# Altium footprint library PCF8574DGVR.PcbLib: 3 footprints
Each footprint in its own frame and in the unit in brackets; x right, y up, seen from the top. Pads: shape width x height; smd on the part's side, far side on the other; paste and mask are expansions set on the pad; w line width, h text height; cw(c..) or ccw(c..) is an arc to the next point about the centre after c.
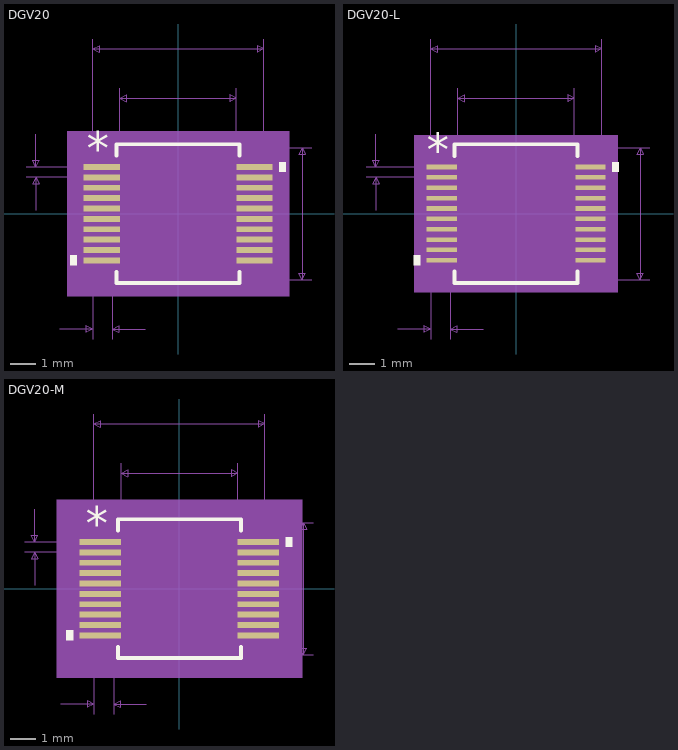
[diagram p0: the footprints below, top view; thin cyan lines are the x and y axes]

## DGV20 [mm]
pads (20):
  rect 1.404x0.229 smd paste+0 mask+0: 1(-2.95,1.8) 2(-2.95,1.4) 3(-2.95,1) 4(-2.95,0.6) 5(-2.95,0.2) 6(-2.95,-0.2) 7(-2.95,-0.6) 8(-2.95,-1) 9(-2.95,-1.4) 10(-2.95,-1.8) 11(2.95,-1.8) 12(2.95,-1.4) 13(2.95,-1) 14(2.95,-0.6) 15(2.95,-0.2) 16(2.95,0.2) 17(2.95,0.6) 18(2.95,1) 19(2.95,1.4) 20(2.95,1.8)
Top Overlay:
  region: -3.906,-1.609 -4.16,-1.609 -4.16,-1.99 -3.906,-1.99
  region: 3.906,1.99 4.16,1.99 4.16,1.609 3.906,1.609
  lines w0.152: -2.375,-2.247 -2.375,-2.68 2.375,-2.68 2.375,-2.247 ; -2.375,2.247 -2.375,2.68 2.375,2.68 2.375,2.247
  text "*" at -3.521,1.902 h1.27
Mechanical 5:
  region: 4.287,-3.188 -4.287,-3.188 -4.287,3.188 4.287,3.188
Mechanical 7:
  lines w0.025: -5.871,1.4 -2.95,1.4 ; -5.871,1.8 -2.95,1.8 ; -5.49,0.13 -5.49,1.4 ; -5.49,3.07 -5.49,1.8 ; -4.572,-4.458 -3.302,-4.458 ; -3.302,-4.839 -3.302,0 -3.302,6.744 ; -2.54,-4.839 -2.54,0 ; -2.248,0 -2.248,4.839 ; -1.27,-4.458 -2.54,-4.458 ; 0,-2.553 5.169,-2.553 ; 0,2.553 5.169,2.553 ; 2.248,0 2.248,4.839 ; 3.302,0 3.302,6.744 ; -5.49,1.4 -5.617,1.146 -5.363,1.146 -5.49,1.4 ; -5.49,1.8 -5.617,2.054 -5.363,2.054 -5.49,1.8 ; -3.302,-4.458 -3.556,-4.331 -3.556,-4.585 -3.302,-4.458 ; -3.302,6.363 3.302,6.363 ; -3.302,6.363 -3.048,6.49 -3.048,6.236 -3.302,6.363 ; -2.54,-4.458 -2.286,-4.331 -2.286,-4.585 -2.54,-4.458 ; -2.248,4.458 2.248,4.458 ; -2.248,4.458 -1.994,4.585 -1.994,4.331 -2.248,4.458 ; 2.248,4.458 1.994,4.585 1.994,4.331 2.248,4.458 ; 3.302,6.363 3.048,6.49 3.048,6.236 3.302,6.363 ; 4.788,-2.553 4.788,2.553 ; 4.788,-2.553 4.661,-2.299 4.915,-2.299 4.788,-2.553 ; 4.788,2.553 4.661,2.299 4.915,2.299 4.788,2.553
  text "Default Padstyle: r140_23" at -7.938,-7.633 h1.27
  text "Pin One Padstyle: r140_23" at -7.938,-9.157 h1.27
  text "Alt 1 Padstyle: b152_229h76" at -8.572,-13.729 h1.27
  text "Alt 2 Padstyle: b229_152h76" at -8.572,-15.253 h1.27
  text "0.177in/4.496mm" at -2.381,4.966 h0.64
  text "0.26in/6.604mm" at -2.222,6.871 h0.64
  text "0.201in/5.105mm" at 5.296,-0.318 h0.64
  text "0.016in/0.4mm" at -10.125,1.282 h0.64
  text "0.03in/0.762mm" at -5.143,-5.601 h0.64
Mechanical 13:
  lines w0: -0.305,2.553 ccw(c0,2.553) 0.305,2.553
  lines w0.025: -3.302,-1.914 -3.302,-1.686 -2.248,-1.686 -2.248,-1.914 -3.302,-1.914 ; -3.302,-1.514 -3.302,-1.286 -2.248,-1.286 -2.248,-1.514 -3.302,-1.514 ; -3.302,-1.114 -3.302,-0.886 -2.248,-0.886 -2.248,-1.114 -3.302,-1.114 ; -3.302,-0.714 -3.302,-0.486 -2.248,-0.486 -2.248,-0.714 -3.302,-0.714 ; -3.302,-0.314 -3.302,-0.086 -2.248,-0.086 -2.248,-0.314 -3.302,-0.314 ; -3.302,0.086 -3.302,0.314 -2.248,0.314 -2.248,0.086 -3.302,0.086 ; -3.302,0.486 -3.302,0.714 -2.248,0.714 -2.248,0.486 -3.302,0.486 ; -3.302,0.886 -3.302,1.114 -2.248,1.114 -2.248,0.886 -3.302,0.886 ; -3.302,1.286 -3.302,1.514 -2.248,1.514 -2.248,1.286 -3.302,1.286 ; -3.302,1.686 -3.302,1.914 -2.248,1.914 -2.248,1.686 -3.302,1.686 ; -2.248,-2.553 2.248,-2.553 2.248,2.553 -2.248,2.553 -2.248,-2.553 ; 2.248,-1.914 2.248,-1.686 3.302,-1.686 3.302,-1.914 2.248,-1.914 ; 2.248,-1.514 2.248,-1.286 3.302,-1.286 3.302,-1.514 2.248,-1.514 ; 2.248,-1.114 2.248,-0.886 3.302,-0.886 3.302,-1.114 2.248,-1.114 ; 2.248,-0.714 2.248,-0.486 3.302,-0.486 3.302,-0.714 2.248,-0.714 ; 2.248,-0.314 2.248,-0.086 3.302,-0.086 3.302,-0.314 2.248,-0.314 ; 2.248,0.086 2.248,0.314 3.302,0.314 3.302,0.086 2.248,0.086 ; 2.248,0.486 2.248,0.714 3.302,0.714 3.302,0.486 2.248,0.486 ; 2.248,0.886 2.248,1.114 3.302,1.114 3.302,0.886 2.248,0.886 ; 2.248,1.286 2.248,1.514 3.302,1.514 3.302,1.286 2.248,1.286 ; 2.248,1.686 2.248,1.914 3.302,1.914 3.302,1.686 2.248,1.686
  text "*" at -2.184,1.206 h1.27
Mechanical 15:
  region: -2.502,-2.168 -3.906,-2.168 -3.906,2.168 -2.502,2.168 -2.502,2.807 2.502,2.807 2.502,2.168 3.906,2.168 3.906,-2.168 2.502,-2.168 2.502,-2.807 -2.502,-2.807
  lines w0.152: -3.906,-2.168 -3.906,2.168 -2.502,2.168 -2.502,2.807 2.502,2.807 2.502,2.168 3.906,2.168 3.906,-2.168 2.502,-2.168 2.502,-2.807 -2.502,-2.807 -2.502,-2.168 -3.906,-2.168
3D body: height 0.25, standoff 0, extent 0,0 0.254,0.254

## DGV20-L [mm]
pads (20):
  rect 1.162x0.179 smd paste+0 mask+0: 1(-2.871,1.8) 2(-2.871,1.4) 3(-2.871,1) 4(-2.871,0.6) 5(-2.871,0.2) 6(-2.871,-0.2) 7(-2.871,-0.6) 8(-2.871,-1) 9(-2.871,-1.4) 10(-2.871,-1.8) 11(2.871,-1.8) 12(2.871,-1.4) 13(2.871,-1) 14(2.871,-0.6) 15(2.871,-0.2) 16(2.871,0.2) 17(2.871,0.6) 18(2.871,1) 19(2.871,1.4) 20(2.871,1.8)
Top Overlay:
  region: -3.706,-1.609 -3.96,-1.609 -3.96,-1.99 -3.706,-1.99
  region: 3.706,1.99 3.96,1.99 3.96,1.609 3.706,1.609
  lines w0.152: -2.375,-2.222 -2.375,-2.68 2.375,-2.68 2.375,-2.222 ; -2.375,2.222 -2.375,2.68 2.375,2.68 2.375,2.222
  text "*" at -3.443,1.852 h1.27
Mechanical 5:
  region: 3.935,-3.035 -3.935,-3.035 -3.935,3.035 3.935,3.035
Mechanical 7:
  lines w0.025: -5.792,1.4 -2.871,1.4 ; -5.792,1.8 -2.871,1.8 ; -5.411,0.13 -5.411,1.4 ; -5.411,3.07 -5.411,1.8 ; -4.572,-4.458 -3.302,-4.458 ; -3.302,-4.839 -3.302,0 -3.302,6.744 ; -2.54,-4.839 -2.54,0 ; -2.248,0 -2.248,4.839 ; -1.27,-4.458 -2.54,-4.458 ; 0,-2.553 5.169,-2.553 ; 0,2.553 5.169,2.553 ; 2.248,0 2.248,4.839 ; 3.302,0 3.302,6.744 ; -5.411,1.4 -5.538,1.146 -5.284,1.146 -5.411,1.4 ; -5.411,1.8 -5.538,2.054 -5.284,2.054 -5.411,1.8 ; -3.302,-4.458 -3.556,-4.331 -3.556,-4.585 -3.302,-4.458 ; -3.302,6.363 3.302,6.363 ; -3.302,6.363 -3.048,6.49 -3.048,6.236 -3.302,6.363 ; -2.54,-4.458 -2.286,-4.331 -2.286,-4.585 -2.54,-4.458 ; -2.248,4.458 2.248,4.458 ; -2.248,4.458 -1.994,4.585 -1.994,4.331 -2.248,4.458 ; 2.248,4.458 1.994,4.585 1.994,4.331 2.248,4.458 ; 3.302,6.363 3.048,6.49 3.048,6.236 3.302,6.363 ; 4.788,-2.553 4.788,2.553 ; 4.788,-2.553 4.661,-2.299 4.915,-2.299 4.788,-2.553 ; 4.788,2.553 4.661,2.299 4.915,2.299 4.788,2.553
  text "Default Padstyle: r116_18" at -7.938,-7.633 h1.27
  text "Pin One Padstyle: r116_18" at -7.938,-9.157 h1.27
  text "Alt 1 Padstyle: b152_229h76" at -8.572,-13.729 h1.27
  text "Alt 2 Padstyle: b229_152h76" at -8.572,-15.253 h1.27
  text "0.177in/4.496mm" at -2.381,4.966 h0.64
  text "0.26in/6.604mm" at -2.222,6.871 h0.64
  text "0.201in/5.105mm" at 5.296,-0.318 h0.64
  text "0.016in/0.4mm" at -10.047,1.282 h0.64
  text "0.03in/0.762mm" at -5.143,-5.601 h0.64
Mechanical 13:
  lines w0: -0.305,2.553 ccw(c0,2.553) 0.305,2.553
  lines w0.025: -3.302,-1.914 -3.302,-1.686 -2.248,-1.686 -2.248,-1.914 -3.302,-1.914 ; -3.302,-1.514 -3.302,-1.286 -2.248,-1.286 -2.248,-1.514 -3.302,-1.514 ; -3.302,-1.114 -3.302,-0.886 -2.248,-0.886 -2.248,-1.114 -3.302,-1.114 ; -3.302,-0.714 -3.302,-0.486 -2.248,-0.486 -2.248,-0.714 -3.302,-0.714 ; -3.302,-0.314 -3.302,-0.086 -2.248,-0.086 -2.248,-0.314 -3.302,-0.314 ; -3.302,0.086 -3.302,0.314 -2.248,0.314 -2.248,0.086 -3.302,0.086 ; -3.302,0.486 -3.302,0.714 -2.248,0.714 -2.248,0.486 -3.302,0.486 ; -3.302,0.886 -3.302,1.114 -2.248,1.114 -2.248,0.886 -3.302,0.886 ; -3.302,1.286 -3.302,1.514 -2.248,1.514 -2.248,1.286 -3.302,1.286 ; -3.302,1.686 -3.302,1.914 -2.248,1.914 -2.248,1.686 -3.302,1.686 ; -2.248,-2.553 2.248,-2.553 2.248,2.553 -2.248,2.553 -2.248,-2.553 ; 2.248,-1.914 2.248,-1.686 3.302,-1.686 3.302,-1.914 2.248,-1.914 ; 2.248,-1.514 2.248,-1.286 3.302,-1.286 3.302,-1.514 2.248,-1.514 ; 2.248,-1.114 2.248,-0.886 3.302,-0.886 3.302,-1.114 2.248,-1.114 ; 2.248,-0.714 2.248,-0.486 3.302,-0.486 3.302,-0.714 2.248,-0.714 ; 2.248,-0.314 2.248,-0.086 3.302,-0.086 3.302,-0.314 2.248,-0.314 ; 2.248,0.086 2.248,0.314 3.302,0.314 3.302,0.086 2.248,0.086 ; 2.248,0.486 2.248,0.714 3.302,0.714 3.302,0.486 2.248,0.486 ; 2.248,0.886 2.248,1.114 3.302,1.114 3.302,0.886 2.248,0.886 ; 2.248,1.286 2.248,1.514 3.302,1.514 3.302,1.286 2.248,1.286 ; 2.248,1.686 2.248,1.914 3.302,1.914 3.302,1.686 2.248,1.686
  text "*" at -2.184,1.206 h1.27
Mechanical 15:
  region: -2.349,-1.991 -3.554,-1.991 -3.554,1.991 -2.349,1.991 -2.349,2.654 2.349,2.654 2.349,1.991 3.554,1.991 3.554,-1.991 2.349,-1.991 2.349,-2.654 -2.349,-2.654
  lines w0.152: -3.554,-1.991 -3.554,1.991 -2.349,1.991 -2.349,2.654 2.349,2.654 2.349,1.991 3.554,1.991 3.554,-1.991 2.349,-1.991 2.349,-2.654 -2.349,-2.654 -2.349,-1.991 -3.554,-1.991
3D body: height 0.25, standoff 0, extent 0,0 0.254,0.254

## DGV20-M [mm]
pads (20):
  rect 1.604x0.229 smd paste+0 mask+0: 1(-3.05,1.8) 2(-3.05,1.4) 3(-3.05,1) 4(-3.05,0.6) 5(-3.05,0.2) 6(-3.05,-0.2) 7(-3.05,-0.6) 8(-3.05,-1) 9(-3.05,-1.4) 10(-3.05,-1.8) 11(3.05,-1.8) 12(3.05,-1.4) 13(3.05,-1) 14(3.05,-0.6) 15(3.05,-0.2) 16(3.05,0.2) 17(3.05,0.6) 18(3.05,1) 19(3.05,1.4) 20(3.05,1.8)
Top Overlay:
  region: -4.106,-1.609 -4.36,-1.609 -4.36,-1.99 -4.106,-1.99
  region: 4.106,1.99 4.36,1.99 4.36,1.609 4.106,1.609
  lines w0.152: -2.375,-2.247 -2.375,-2.68 2.375,-2.68 2.375,-2.247 ; -2.375,2.247 -2.375,2.68 2.375,2.68 2.375,2.247
  text "*" at -3.621,1.902 h1.27
Mechanical 5:
  region: 4.741,-3.442 -4.741,-3.442 -4.741,3.442 4.741,3.442
Mechanical 7:
  lines w0.025: -5.971,1.4 -3.05,1.4 ; -5.971,1.8 -3.05,1.8 ; -5.59,0.13 -5.59,1.4 ; -5.59,3.07 -5.59,1.8 ; -4.572,-4.458 -3.302,-4.458 ; -3.302,-4.839 -3.302,0 -3.302,6.744 ; -2.54,-4.839 -2.54,0 ; -2.248,0 -2.248,4.839 ; -1.27,-4.458 -2.54,-4.458 ; 0,-2.553 5.169,-2.553 ; 0,2.553 5.169,2.553 ; 2.248,0 2.248,4.839 ; 3.302,0 3.302,6.744 ; -5.59,1.4 -5.717,1.146 -5.463,1.146 -5.59,1.4 ; -5.59,1.8 -5.717,2.054 -5.463,2.054 -5.59,1.8 ; -3.302,-4.458 -3.556,-4.331 -3.556,-4.585 -3.302,-4.458 ; -3.302,6.363 3.302,6.363 ; -3.302,6.363 -3.048,6.49 -3.048,6.236 -3.302,6.363 ; -2.54,-4.458 -2.286,-4.331 -2.286,-4.585 -2.54,-4.458 ; -2.248,4.458 2.248,4.458 ; -2.248,4.458 -1.994,4.585 -1.994,4.331 -2.248,4.458 ; 2.248,4.458 1.994,4.585 1.994,4.331 2.248,4.458 ; 3.302,6.363 3.048,6.49 3.048,6.236 3.302,6.363 ; 4.788,-2.553 4.788,2.553 ; 4.788,-2.553 4.661,-2.299 4.915,-2.299 4.788,-2.553 ; 4.788,2.553 4.661,2.299 4.915,2.299 4.788,2.553
  text "Default Padstyle: r160_23" at -7.938,-7.633 h1.27
  text "Pin One Padstyle: r160_23" at -7.938,-9.157 h1.27
  text "Alt 1 Padstyle: b152_229h76" at -8.572,-13.729 h1.27
  text "Alt 2 Padstyle: b229_152h76" at -8.572,-15.253 h1.27
  text "0.177in/4.496mm" at -2.381,4.966 h0.64
  text "0.26in/6.604mm" at -2.222,6.871 h0.64
  text "0.201in/5.105mm" at 5.296,-0.318 h0.64
  text "0.016in/0.4mm" at -10.225,1.282 h0.64
  text "0.03in/0.762mm" at -5.143,-5.601 h0.64
Mechanical 13:
  lines w0: -0.305,2.553 ccw(c0,2.553) 0.305,2.553
  lines w0.025: -3.302,-1.914 -3.302,-1.686 -2.248,-1.686 -2.248,-1.914 -3.302,-1.914 ; -3.302,-1.514 -3.302,-1.286 -2.248,-1.286 -2.248,-1.514 -3.302,-1.514 ; -3.302,-1.114 -3.302,-0.886 -2.248,-0.886 -2.248,-1.114 -3.302,-1.114 ; -3.302,-0.714 -3.302,-0.486 -2.248,-0.486 -2.248,-0.714 -3.302,-0.714 ; -3.302,-0.314 -3.302,-0.086 -2.248,-0.086 -2.248,-0.314 -3.302,-0.314 ; -3.302,0.086 -3.302,0.314 -2.248,0.314 -2.248,0.086 -3.302,0.086 ; -3.302,0.486 -3.302,0.714 -2.248,0.714 -2.248,0.486 -3.302,0.486 ; -3.302,0.886 -3.302,1.114 -2.248,1.114 -2.248,0.886 -3.302,0.886 ; -3.302,1.286 -3.302,1.514 -2.248,1.514 -2.248,1.286 -3.302,1.286 ; -3.302,1.686 -3.302,1.914 -2.248,1.914 -2.248,1.686 -3.302,1.686 ; -2.248,-2.553 2.248,-2.553 2.248,2.553 -2.248,2.553 -2.248,-2.553 ; 2.248,-1.914 2.248,-1.686 3.302,-1.686 3.302,-1.914 2.248,-1.914 ; 2.248,-1.514 2.248,-1.286 3.302,-1.286 3.302,-1.514 2.248,-1.514 ; 2.248,-1.114 2.248,-0.886 3.302,-0.886 3.302,-1.114 2.248,-1.114 ; 2.248,-0.714 2.248,-0.486 3.302,-0.486 3.302,-0.714 2.248,-0.714 ; 2.248,-0.314 2.248,-0.086 3.302,-0.086 3.302,-0.314 2.248,-0.314 ; 2.248,0.086 2.248,0.314 3.302,0.314 3.302,0.086 2.248,0.086 ; 2.248,0.486 2.248,0.714 3.302,0.714 3.302,0.486 2.248,0.486 ; 2.248,0.886 2.248,1.114 3.302,1.114 3.302,0.886 2.248,0.886 ; 2.248,1.286 2.248,1.514 3.302,1.514 3.302,1.286 2.248,1.286 ; 2.248,1.686 2.248,1.914 3.302,1.914 3.302,1.686 2.248,1.686
  text "*" at -2.184,1.206 h1.27
Mechanical 15:
  region: -2.756,-2.422 -4.36,-2.422 -4.36,2.422 -2.756,2.422 -2.756,3.061 2.756,3.061 2.756,2.422 4.36,2.422 4.36,-2.422 2.756,-2.422 2.756,-3.061 -2.756,-3.061
  lines w0.152: -4.36,-2.422 -4.36,2.422 -2.756,2.422 -2.756,3.061 2.756,3.061 2.756,2.422 4.36,2.422 4.36,-2.422 2.756,-2.422 2.756,-3.061 -2.756,-3.061 -2.756,-2.422 -4.36,-2.422
3D body: height 0.25, standoff 0, extent 0,0 0.254,0.254